# EAGLE library part 634008137521 (library USB3IO)
WR-MJ Horizontal Shielded SMT with LED and EMI Panel Finger 8P8C Modular Jack Tab Up, 8 Pins=>Code : Con_I-O_MJ-H_Shielded_Up_634008137521 <http://katalog.we-online.de/media/images/eican/Con_I-O_MJ-H_Shielded_Up_634008137521_pf2.jpg> Details see: http://katalog.we-online.de/en/em/634_008_137_521 Created 2014-07-10, Karrer Zheng 2014 (C) Würth Elektronik
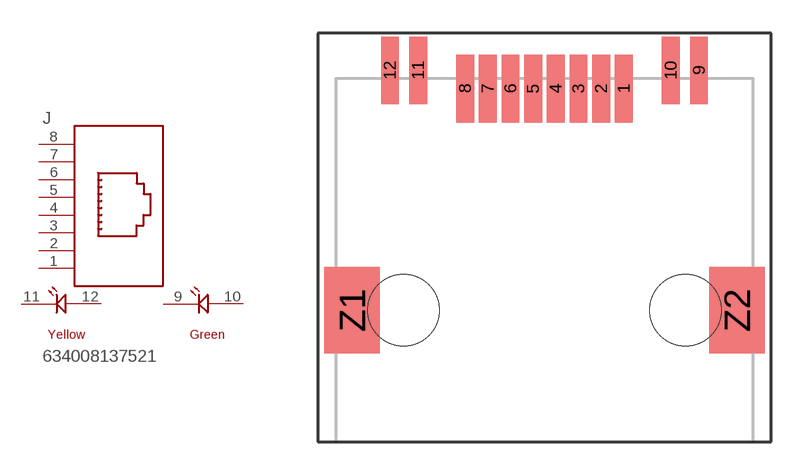
[diagram p141: symbol with the pads of 634008137521; footprint 634008137521]

Designator prefix J

## 634008137521  [634008137521]
1  1  pas
2  2  pas
3  3  pas
4  4  pas
5  5  pas
6  6  pas
7  7  pas
8  8  pas
9  12  pas
10  11  pas
11  10  pas
12  9  pas

## Footprint 634008137521 (pad centres in mm)
WR-MJ Horizontal Shielded SMT with LED and EMI Panel Finger 8P8C Modular Jack Tab Up, 8 Pins
smd 0.8 x 3.05: 1 3.57,0; 2 2.55,0; 3 1.53,0; 4 0.51,0; 5 -0.51,0; 6 -1.53,0; 7 -2.55,0; 8 -3.57,0; 9 6.955,0.82; 10 5.685,0.82; 11 -5.685,0.82; 12 -6.955,0.82
smd 2.49 x 3.89: Z1 -8.66,-9.98; Z2 8.66,-9.98
hole 3.2 at -6.35,-9.98
hole 3.2 at 6.35,-9.98